# Altium schematic symbol library TLP352.SchLib: 1 symbol
Pins are listed as number, name and electrical type; pins without a type are passive.

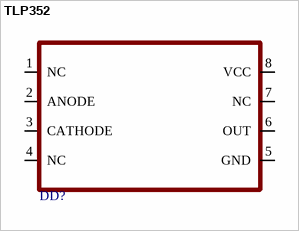
[diagram p0: symbol TLP352]

## TLP352
designator DD?  (value not drawn)
pins: 1 NC, 2 ANODE, 3 CATHODE, 4 NC, 5 GND, 6 OUT, 7 NC, 8 VCC